# Altium schematic symbol library PinHeader.SchLib: 54 symbols
Pins are listed as number, name and electrical type; pins without a type are passive.

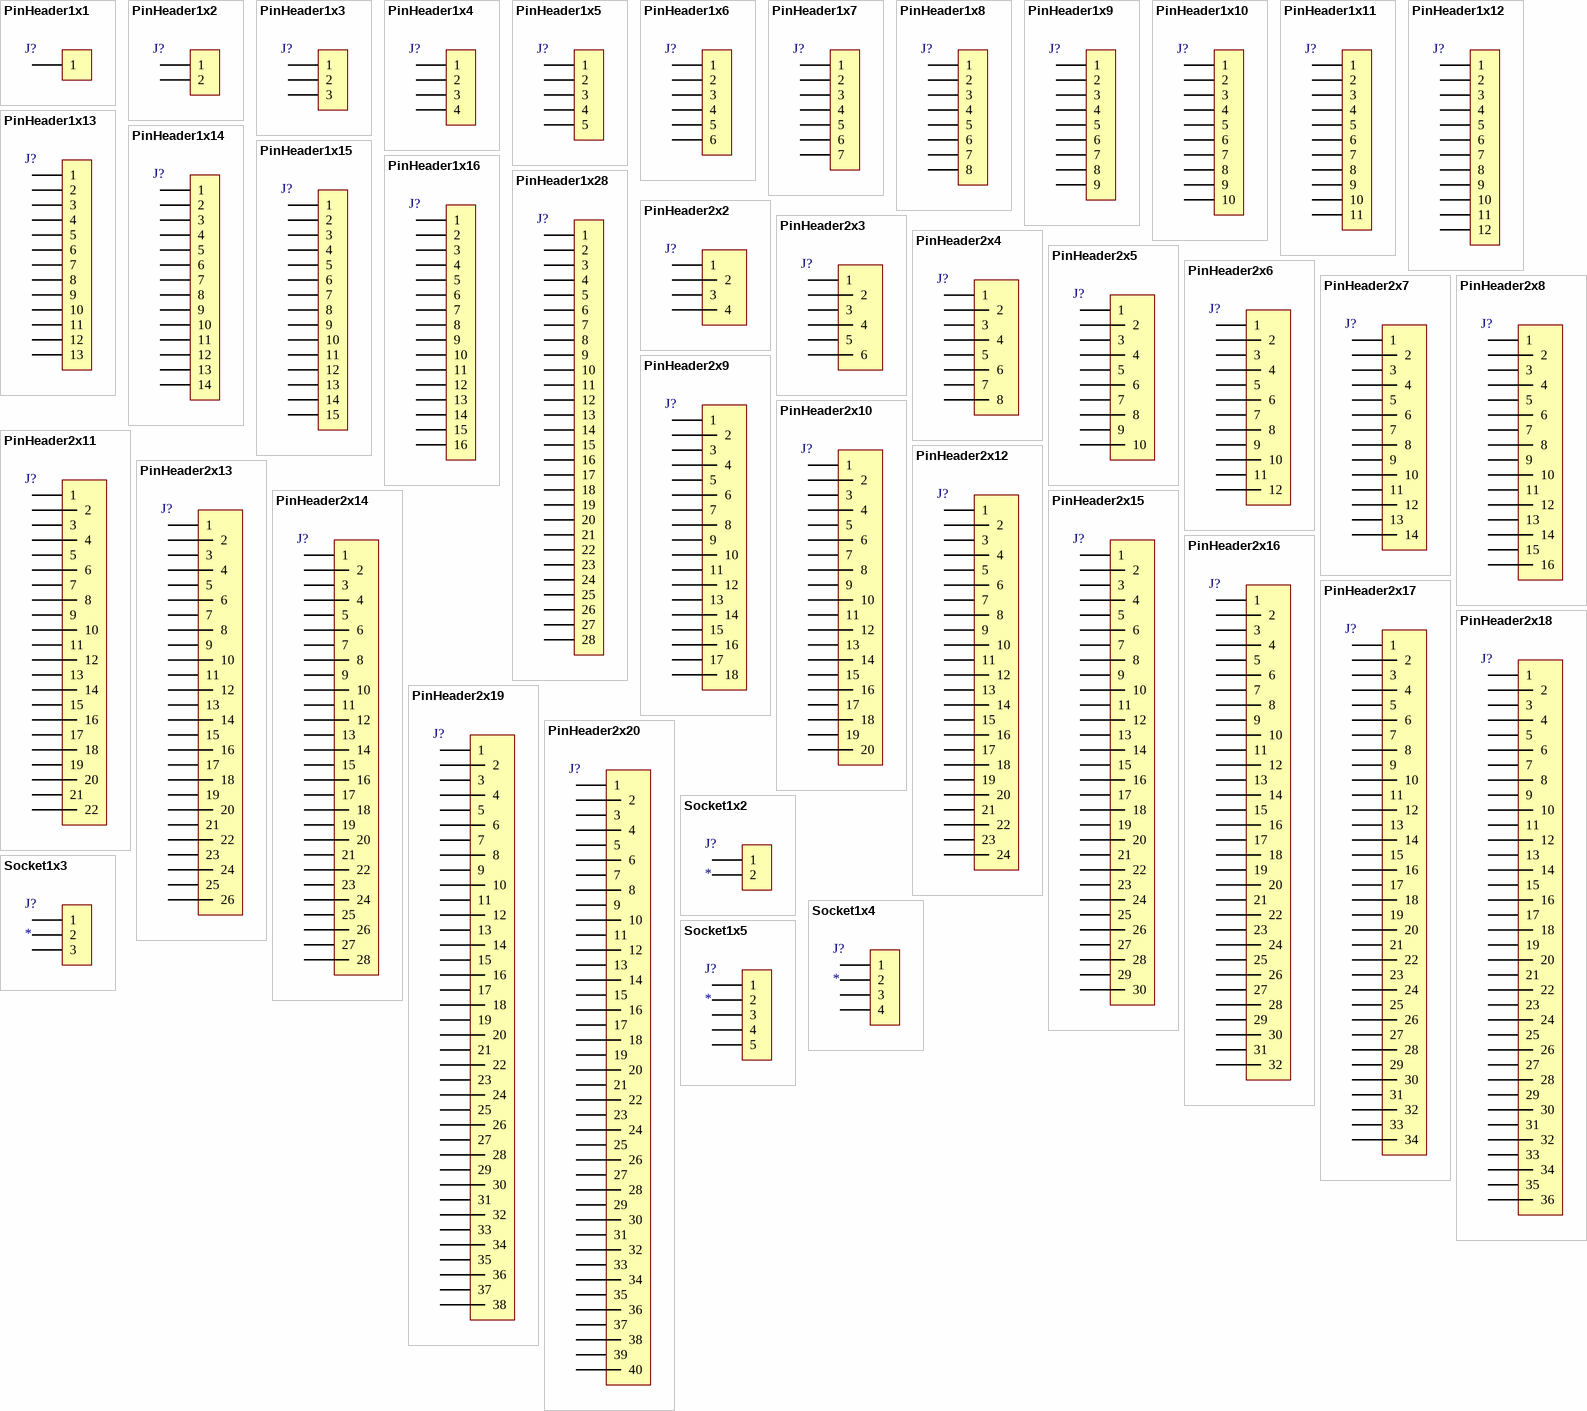
[diagram p0: symbols PinHeader1x1 to Socket1x5]

## PinHeader1x1
designator J?  (value not drawn)
Plug connector; Value: *
footprint PinHeader1x1 P2.54 A (Plug connector)
pins: 1

## PinHeader1x2
designator J?  (value not drawn)
Plug connector; Value: *
footprint PinHeader1x2 P2.54 (Plug connector)
footprint PinHeader1x2 P2.54 A (Plug connector)
footprint PinHeader1x2 P2.54 Right Angle (Plug connector)
footprint PinHeader1x2 P1.27 (Plug connector)
pins: 1, 2

## PinHeader1x3
designator J?  (value not drawn)
Plug connector; Value: *
footprint PinHeader1x3 P2.54 (Plug connector)
footprint PinHeader1x3 P2.54 A (Plug connector)
footprint PinHeader1x3 P2.54 Right Angle (Plug connector)
footprint PinHeader1x3 P1.27 (Plug connector)
footprint PinHeader1x3 P2.54 A SMD (Plug connector SMD)
pins: 1, 2, 3

## PinHeader1x4
designator J?  (value not drawn)
Plug connector; Value: *
footprint PinHeader1x4 P2.54 (Plug connector)
footprint PinHeader1x4 P2.54 A (Plug connector)
footprint PinHeader1x4 P2.54 Right Angle (Plug connector)
footprint PinHeader1x4 P1.27 (Plug connector)
pins: 1, 2, 3, 4

## PinHeader1x5
designator J?  (value not drawn)
Plug connector; Value: *
footprint PinHeader1x5 P2.54 (Plug connector)
footprint PinHeader1x5 P2.54 A (Plug connector)
footprint PinHeader1x5 P2.54 Right Angle (Plug connector)
footprint PinHeader1x5 P1.27 (Plug connector)
pins: 1, 2, 3, 4, 5

## PinHeader1x6
designator J?  (value not drawn)
Plug connector; Value: *
footprint PinHeader1x6 P2.54 (Plug connector)
footprint PinHeader1x6 P2.54 A (Plug connector)
footprint PinHeader1x6 P2.54 Right Angle (Plug connector)
footprint PinHeader1x6 P1.27 (Plug connector)
pins: 1, 2, 3, 4, 5, 6

## PinHeader1x7
designator J?  (value not drawn)
Plug connector; Value: *
footprint PinHeader1x7 P2.54 A (Plug connector)
footprint PinHeader1x7 P2.54 (Plug connector)
footprint PinHeader1x7 P2.54 Right Angle (Plug connector)
pins: 1, 2, 3, 4, 5, 6, 7

## PinHeader1x8
designator J?  (value not drawn)
Plug connector; Value: *
footprint PinHeader1x8 P2.54 (Plug connector)
footprint PinHeader1x8 P2.54 A (Plug connector)
footprint PinHeader1x8 P2.54 Right Angle (Plug connector)
pins: 1, 2, 3, 4, 5, 6, 7, 8

## PinHeader1x9
designator J?  (value not drawn)
Plug connector; Value: *
footprint PinHeader1x9 P2.54 A (Plug connector)
pins: 1, 2, 3, 4, 5, 6, 7, 8, 9

## PinHeader1x10
designator J?  (value not drawn)
Plug connector; Value: *
footprint PinHeader1x10 P2.54 (Plug connector)
footprint PinHeader1x10 P2.54 A (Plug connector)
footprint PinHeader1x10 P2.54 Right Angle (Plug connector)
footprint PinHeader1x10 P1.27 (Plug connector)
pins: 1, 2, 3, 4, 5, 6, 7, 8, 9, 10

## PinHeader1x11
designator J?  (value not drawn)
Plug connector; Value: *
footprint PinHeader1x11 P2.54 A (Plug connector)
pins: 1, 2, 3, 4, 5, 6, 7, 8, 9, 10, 11

## PinHeader1x12
designator J?  (value not drawn)
Plug connector; Value: *
footprint PinHeader1x12 P2.54 (Footprint not found)
footprint PinHeader1x12 P2.54 A (Plug connector)
footprint PinHeader1x12 P2.54 Right Angle (Plug connector)
pins: 1, 2, 3, 4, 5, 6, 7, 8, 9, 10, 11, 12

## PinHeader1x13
designator J?  (value not drawn)
Plug connector; Value: *
footprint PinHeader1x13 P2.54 A (Plug connector)
pins: 1, 2, 3, 4, 5, 6, 7, 8, 9, 10, 11, 12, 13

## PinHeader1x14
designator J?  (value not drawn)
Plug connector; Value: *
footprint PinHeader1x14 P2.54 (Plug connector)
footprint PinHeader1x14 P2.54 A (Plug connector)
footprint PinHeader1x14 P1.27 (Plug connector)
pins: 1, 2, 3, 4, 5, 6, 7, 8, 9, 10, 11, 12, 13, 14

## PinHeader1x15
designator J?  (value not drawn)
Plug connector; Value: *
footprint PinHeader1x15 P2.54 A (Plug connector)
pins: 1, 2, 3, 4, 5, 6, 7, 8, 9, 10, 11, 12, 13, 14, 15

## PinHeader1x16
designator J?  (value not drawn)
Plug connector; Value: *
footprint PinHeader1x16 P2.54 (Plug connector)
footprint PinHeader1x16 P2.54 A (Plug connector)
pins: 1, 2, 3, 4, 5, 6, 7, 8, 9, 10, 11, 12, 13, 14, 15, 16

## PinHeader1x28
designator J?  (value not drawn)
Plug connector; Value: *
footprint PinHeader1x28 P2.54 (Plug connector)
footprint PinHeader1x28 P2.54 A (Plug connector)
pins: 1, 2, 3, 4, 5, 6, 7, 8, 9, 10, 11, 12, 13, 14, 15, 16, 17, 18, 19, 20, 21, 22, 23, 24, 25, 26, 27, 28

## PinHeader2x2
designator J?  (value not drawn)
Plug connector; Value: *
footprint PinHeader2x2 P2.54 A (Plug connector)
footprint PinHeader2x2 P1.27 (Plug connector)
pins: 1, 2, 3, 4

## PinHeader2x3
designator J?  (value not drawn)
Plug connector; Value: *
footprint PinHeader2x3 P2.54 A (Plug connector)
pins: 1, 2, 3, 4, 5, 6

## PinHeader2x4
designator J?  (value not drawn)
Plug connector; Value: *
footprint PinHeader2x4 P2.54 A (Plug connector)
footprint PinHeader2x4 P1.27 (Plug connector)
pins: 1, 2, 3, 4, 5, 6, 7, 8

## PinHeader2x5
designator J?  (value not drawn)
Plug connector; Value: *
footprint PinHeader2x5 P1.27 SMD H5.9 (Plug connector)
footprint PinHeader2x5 P2.54 (Plug connector)
footprint PinHeader2x5 P2.54 SMD (Plug connector)
footprint PinHeader2x5 P1.27 SMD H4.5 2 Holes (Plug connector SMD)
footprint PinHeader2x5 P2.54 A (Plug connector)
footprint PinHeader2x5 P0.8 SMD Samtec FTE (Plug connector)
footprint PINHEADER2X5 P2.54 SIDE MOUNT (Plug connector Mounted on PCB side)
footprint PINHEADER2X5 P2.00 SIDE MOUNT (Plug connector Mounted on PCB side)
pins: 1, 2, 3, 4, 5, 6, 7, 8, 9, 10

## PinHeader2x6
designator J?  (value not drawn)
Plug connector; Value: *
footprint PINHEADER2X6 P2.54 SIDE MOUNT (Plug connector Mounted on PCB side)
footprint PinHeader2x6 P2.54 (Plug connector)
footprint PinHeader2x6 P2.54 SMD (Plug connector)
footprint PinHeader2x6 P2.54 A (Plug connector)
footprint PINHEADER2X6 P2.00 SIDE MOUNT (Plug connector Mounted on PCB side)
pins: 1, 2, 3, 4, 5, 6, 7, 8, 9, 10, 11, 12

## PinHeader2x7
designator J?  (value not drawn)
Plug connector; Value: *
footprint PinHeader2x7 P2.54 A (Plug connector)
footprint PINHEADER2X7 P2.00 SIDE MOUNT (Plug connector Mounted on PCB side)
footprint PinHeader2x7 P1.27 (Plug connector)
footprint PinHeader2x7 P2.54 (Plug connector)
footprint PinHeader2x7 P1.27 SMD H5.9 (Plug connector)
pins: 1, 2, 3, 4, 5, 6, 7, 8, 9, 10, 11, 12, 13, 14

## PinHeader2x8
designator J?  (value not drawn)
Plug connector; Value: *
footprint PINHEADER2X8 P2.54 SIDE MOUNT (Plug connector Mounted on PCB side)
footprint PinHeader2x8 P2.54 (Plug connector)
footprint PinHeader2x8 P2.54 SMD (Plug connector)
footprint PinHeader2x8 P2.54 A (Plug connector)
pins: 1, 2, 3, 4, 5, 6, 7, 8, 9, 10, 11, 12, 13, 14, 15, 16

## PinHeader2x9
designator J?  (value not drawn)
Plug connector; Value: *
footprint PinHeader2x9 P2.54 A (Plug connector)
pins: 1, 2, 3, 4, 5, 6, 7, 8, 9, 10, 11, 12, 13, 14, 15, 16, 17, 18

## PinHeader2x10
designator J?  (value not drawn)
Plug connector; Value: *
footprint PinHeader2x10 P2.54 (Plug connector)
footprint PinHeader2x10 P2.54 SMD (Plug connector)
footprint PinHeader2x10 P2.54 A (Plug connector)
footprint PinHeader2x10 P1.0 SMD SAMTEC FTM (Plug connector)
pins: 1, 2, 3, 4, 5, 6, 7, 8, 9, 10, 11, 12, 13, 14, 15, 16, 17, 18, 19, 20

## PinHeader2x11
designator J?  (value not drawn)
Plug connector; Value: *
footprint PinHeader2x11 P2.54 A (Plug connector)
pins: 1, 2, 3, 4, 5, 6, 7, 8, 9, 10, 11, 12, 13, 14, 15, 16, 17, 18, 19, 20, 21, 22

## PinHeader2x12
designator J?  (value not drawn)
Plug connector; Value: *
footprint PinHeader2x12 P2.54 A (Plug connector)
footprint PinHeader2x12 P2.54 (Plug connector)
pins: 1, 2, 3, 4, 5, 6, 7, 8, 9, 10, 11, 12, 13, 14, 15, 16, 17, 18, 19, 20, 21, 22, 23, 24

## PinHeader2x13
designator J?  (value not drawn)
Plug connector; Value: *
footprint PinHeader2x13 P2.54 A (Plug connector)
pins: 1, 2, 3, 4, 5, 6, 7, 8, 9, 10, 11, 12, 13, 14, 15, 16, 17, 18, 19, 20, 21, 22, 23, 24, 25, 26

## PinHeader2x14
designator J?  (value not drawn)
Plug connector; Value: *
footprint PinHeader2x14 P2.54 A (Plug connector)
pins: 1, 2, 3, 4, 5, 6, 7, 8, 9, 10, 11, 12, 13, 14, 15, 16, 17, 18, 19, 20, 21, 22, 23, 24, 25, 26, 27, 28

## PinHeader2x15
designator J?  (value not drawn)
Plug connector; Value: *
footprint PinHeader2x15 P2.54 A (Plug connector)
footprint PinHeader2x15 P2.54 A RIGHT ANGLE (Plug connector)
footprint PinHeader2x15 P2.54 Right Angle (Plug connector)
pins: 1, 2, 3, 4, 5, 6, 7, 8, 9, 10, 11, 12, 13, 14, 15, 16, 17, 18, 19, 20, 21, 22, 23, 24, 25, 26, 27, 28, 29, 30

## PinHeader2x16
designator J?  (value not drawn)
Plug connector; Value: *
footprint PinHeader2x16 P2.54 (Footprint not found)
footprint PinHeader2x16 P2.54 SMD (Footprint not found)
footprint PinHeader2x16 P2.54 A (Plug connector)
pins: 1, 2, 3, 4, 5, 6, 7, 8, 9, 10, 11, 12, 13, 14, 15, 16, 17, 18, 19, 20, 21, 22, 23, 24, 25, 26, 27, 28, 29, 30, 31, 32

## PinHeader2x17
designator J?  (value not drawn)
Plug connector; Value: *
footprint PinHeader2x17 P2.54 A (Plug connector)
footprint PinHeader2x17 P2.54 (Plug connector)
pins: 1, 2, 3, 4, 5, 6, 7, 8, 9, 10, 11, 12, 13, 14, 15, 16, 17, 18, 19, 20, 21, 22, 23, 24, 25, 26, 27, 28, 29, 30, 31, 32, 33, 34

## PinHeader2x18
designator J?  (value not drawn)
Plug connector; Value: *
footprint PinHeader2x18 P2.54 A (Plug connector)
pins: 1, 2, 3, 4, 5, 6, 7, 8, 9, 10, 11, 12, 13, 14, 15, 16, 17, 18, 19, 20, 21, 22, 23, 24, 25, 26, 27, 28, 29, 30, 31, 32, 33, 34, 35, 36

## PinHeader2x19
designator J?  (value not drawn)
Plug connector; Value: *
footprint PinHeader2x19 P2.54 A (Plug connector)
pins: 1, 2, 3, 4, 5, 6, 7, 8, 9, 10, 11, 12, 13, 14, 15, 16, 17, 18, 19, 20, 21, 22, 23, 24, 25, 26, 27, 28, 29, 30, 31, 32, 33, 34, 35, 36, 37, 38

## PinHeader2x20
designator J?  (value not drawn)
Plug connector; Value: *
footprint PinHeader2x20 P2.54 (Plug connector)
footprint PinHeader2x20 P2.54 SMD (Plug connector)
footprint PinHeader2x20 P2.54 A (Plug connector)
pins: 1, 2, 3, 4, 5, 6, 7, 8, 9, 10, 11, 12, 13, 14, 15, 16, 17, 18, 19, 20, 21, 22, 23, 24, 25, 26, 27, 28, 29, 30, 31, 32, 33, 34, 35, 36, 37, 38, 39, 40

## Socket1x2
designator J?
Receptacle connector
footprint Socket1x2 P2.54 (Receptacle connector)
pins: 1, 2

## Socket1x3
designator J?
Receptacle connector
footprint Socket1x3 P2.54 (Receptacle connector)
pins: 1, 2, 3

## Socket1x4
designator J?
Receptacle connector
footprint Socket1x4 P2.54 (Receptacle connector)
pins: 1, 2, 3, 4

## Socket1x5
designator J?
Receptacle connector
footprint Socket1x5 P2.54 (Receptacle connector)
pins: 1, 2, 3, 4, 5

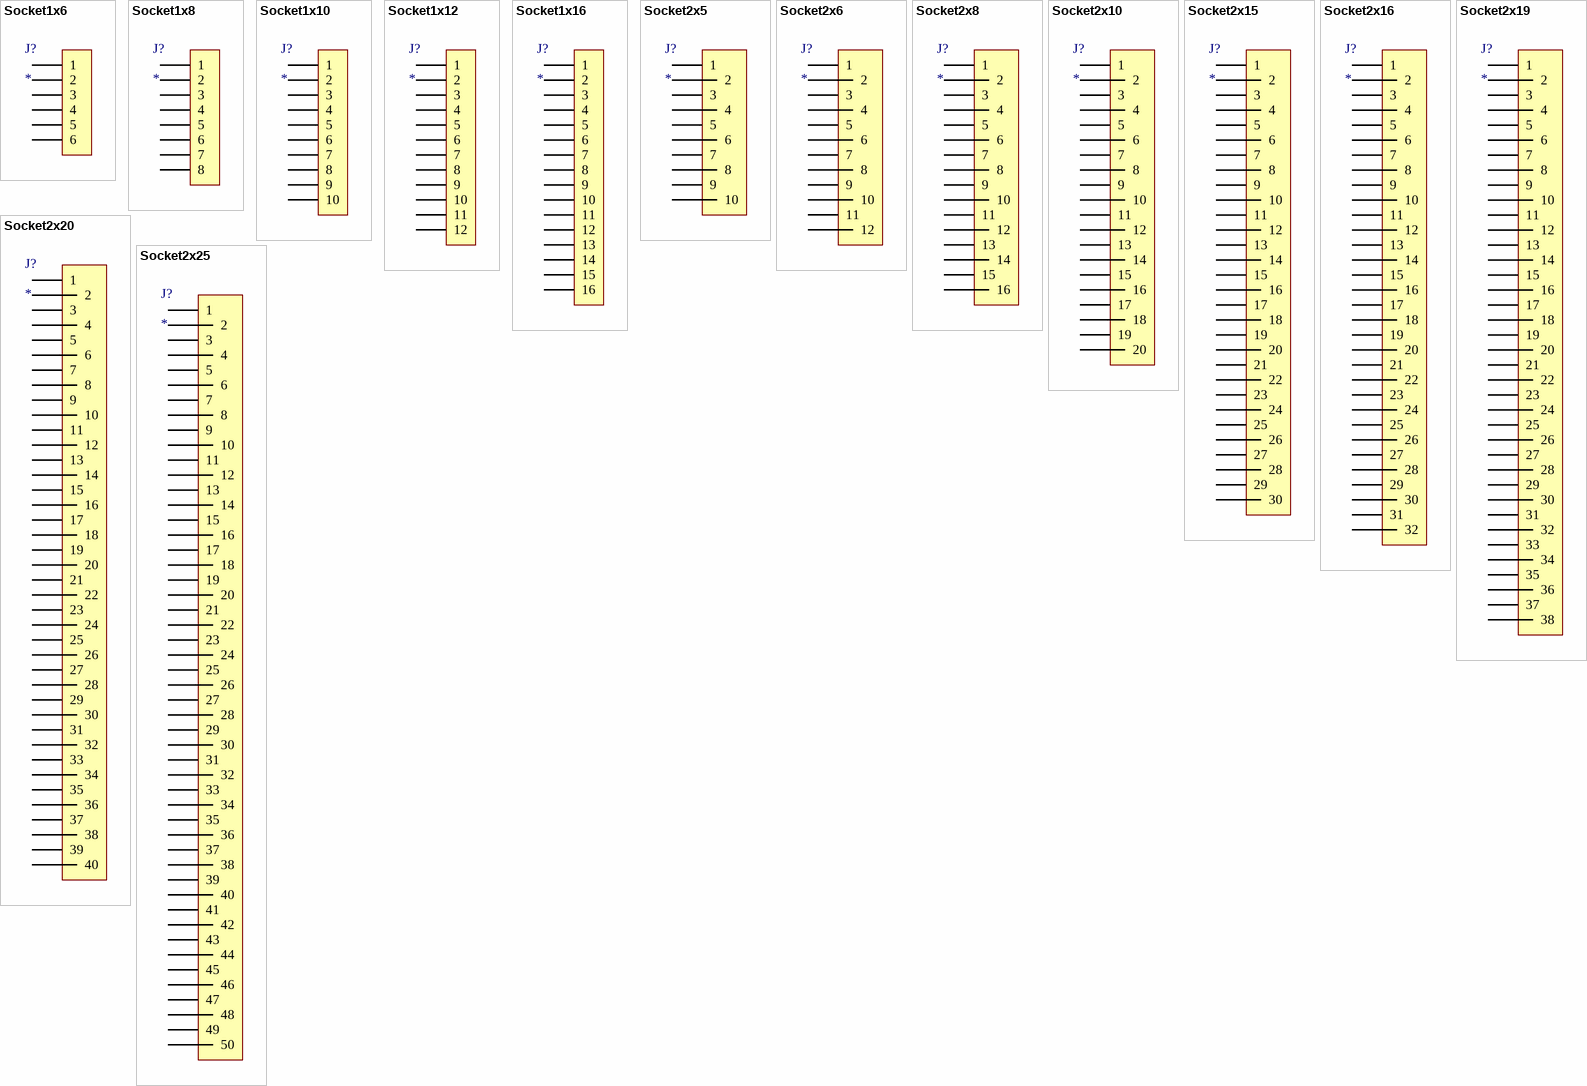
[diagram p1: symbols Socket1x6 to Socket2x25]

## Socket1x6
designator J?
Receptacle connector
footprint Socket1x6 P2.54 (Receptacle connector)
pins: 1, 2, 3, 4, 5, 6

## Socket1x8
designator J?
Receptacle connector
footprint Socket1x8 P2.54 (Receptacle connector)
pins: 1, 2, 3, 4, 5, 6, 7, 8

## Socket1x10
designator J?
Receptacle connector
footprint Socket1x10 P2.54 (Receptacle connector)
footprint Socket1x10 P1.27 (Socket connector)
pins: 1, 2, 3, 4, 5, 6, 7, 8, 9, 10

## Socket1x12
designator J?
Receptacle connector
footprint Socket1x12 P2.54 (Footprint not found)
pins: 1, 2, 3, 4, 5, 6, 7, 8, 9, 10, 11, 12

## Socket1x16
designator J?
Receptacle connector
footprint Socket1x16 P2.54 (Receptacle connector)
pins: 1, 2, 3, 4, 5, 6, 7, 8, 9, 10, 11, 12, 13, 14, 15, 16

## Socket2x5
designator J?
Receptacle connector
footprint Socket2x5 P2.54 (Receptacle connector)
footprint Socket2x5 P0.8 SMD Samtec CLE (Receptacle connector)
footprint Socket 2x5 P2.00 Right Angle (Receptacle connector)
footprint Socket 2x5 P2.00 Side Mount (Receptacle connector Samtec SQT-105-01-L-D)
pins: 1, 2, 3, 4, 5, 6, 7, 8, 9, 10

## Socket2x6
designator J?
Receptacle connector
footprint Socket2x6 P2.54 (Receptacle connector)
pins: 1, 2, 3, 4, 5, 6, 7, 8, 9, 10, 11, 12

## Socket2x8
designator J?
Receptacle connector
footprint Socket2x8 P2.54 (Receptacle connector)
pins: 1, 2, 3, 4, 5, 6, 7, 8, 9, 10, 11, 12, 13, 14, 15, 16

## Socket2x10
designator J?
Receptacle connector
footprint Socket2x10 P2.54 (Receptacle connector)
pins: 1, 2, 3, 4, 5, 6, 7, 8, 9, 10, 11, 12, 13, 14, 15, 16, 17, 18, 19, 20

## Socket2x15
designator J?
Receptacle connector
footprint Socket2x15 P2.54 Right Angle (Receptacle connector)
pins: 1, 2, 3, 4, 5, 6, 7, 8, 9, 10, 11, 12, 13, 14, 15, 16, 17, 18, 19, 20, 21, 22, 23, 24, 25, 26, 27, 28, 29, 30

## Socket2x16
designator J?
Receptacle connector
footprint Socket2x16 P2.54 (Receptacle connector)
pins: 1, 2, 3, 4, 5, 6, 7, 8, 9, 10, 11, 12, 13, 14, 15, 16, 17, 18, 19, 20, 21, 22, 23, 24, 25, 26, 27, 28, 29, 30, 31, 32

## Socket2x19
designator J?
Receptacle connector
footprint Socket2x19 P2.54 (Footprint not found)
pins: 1, 2, 3, 4, 5, 6, 7, 8, 9, 10, 11, 12, 13, 14, 15, 16, 17, 18, 19, 20, 21, 22, 23, 24, 25, 26, 27, 28, 29, 30, 31, 32, 33, 34, 35, 36, 37, 38

## Socket2x20
designator J?
Receptacle connector
footprint Socket2x20 P2.54 (Receptacle connector)
pins: 1, 2, 3, 4, 5, 6, 7, 8, 9, 10, 11, 12, 13, 14, 15, 16, 17, 18, 19, 20, 21, 22, 23, 24, 25, 26, 27, 28, 29, 30, 31, 32, 33, 34, 35, 36, 37, 38, 39, 40

## Socket2x25
designator J?
Receptacle connector
footprint Socket2x25 P2.54 (Footprint not found)
pins: 1, 2, 3, 4, 5, 6, 7, 8, 9, 10, 11, 12, 13, 14, 15, 16, 17, 18, 19, 20, 21, 22, 23, 24, 25, 26, 27, 28, 29, 30, 31, 32, 33, 34, 35, 36, 37, 38, 39, 40, 41, 42, 43, 44, 45, 46, 47, 48, 49, 50